# Altium schematic symbol library AOZ1024D.SchLib: 1 symbol
Pins are listed as number, name and electrical type; pins without a type are passive.

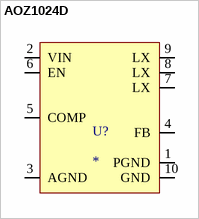
[diagram p0: symbol AOZ1024D]

## AOZ1024D
designator U?
AOZ1024D 4A Synchronous Buck Regulator; Manufacturer: Alpha & Omega; Vendor: Digi-Key; Part No.: AOZ1024D; Price Est.: $1.84
pins: 1 PGND, 2 VIN, 3 AGND, 4 FB, 5 COMP, 6 EN, 7 LX, 8 LX, 9 LX, 10 GND